# Altium footprint library ind.PcbLib: 38 footprints (part 1 of 3)
Each footprint in its own frame and in the unit in brackets; x right, y up, seen from the top. Pads: shape width x height; smd on the part's side, far side on the other; paste and mask are expansions set on the pad; w line width, h text height; cw(c..) or ccw(c..) is an arc to the next point about the centre after c.
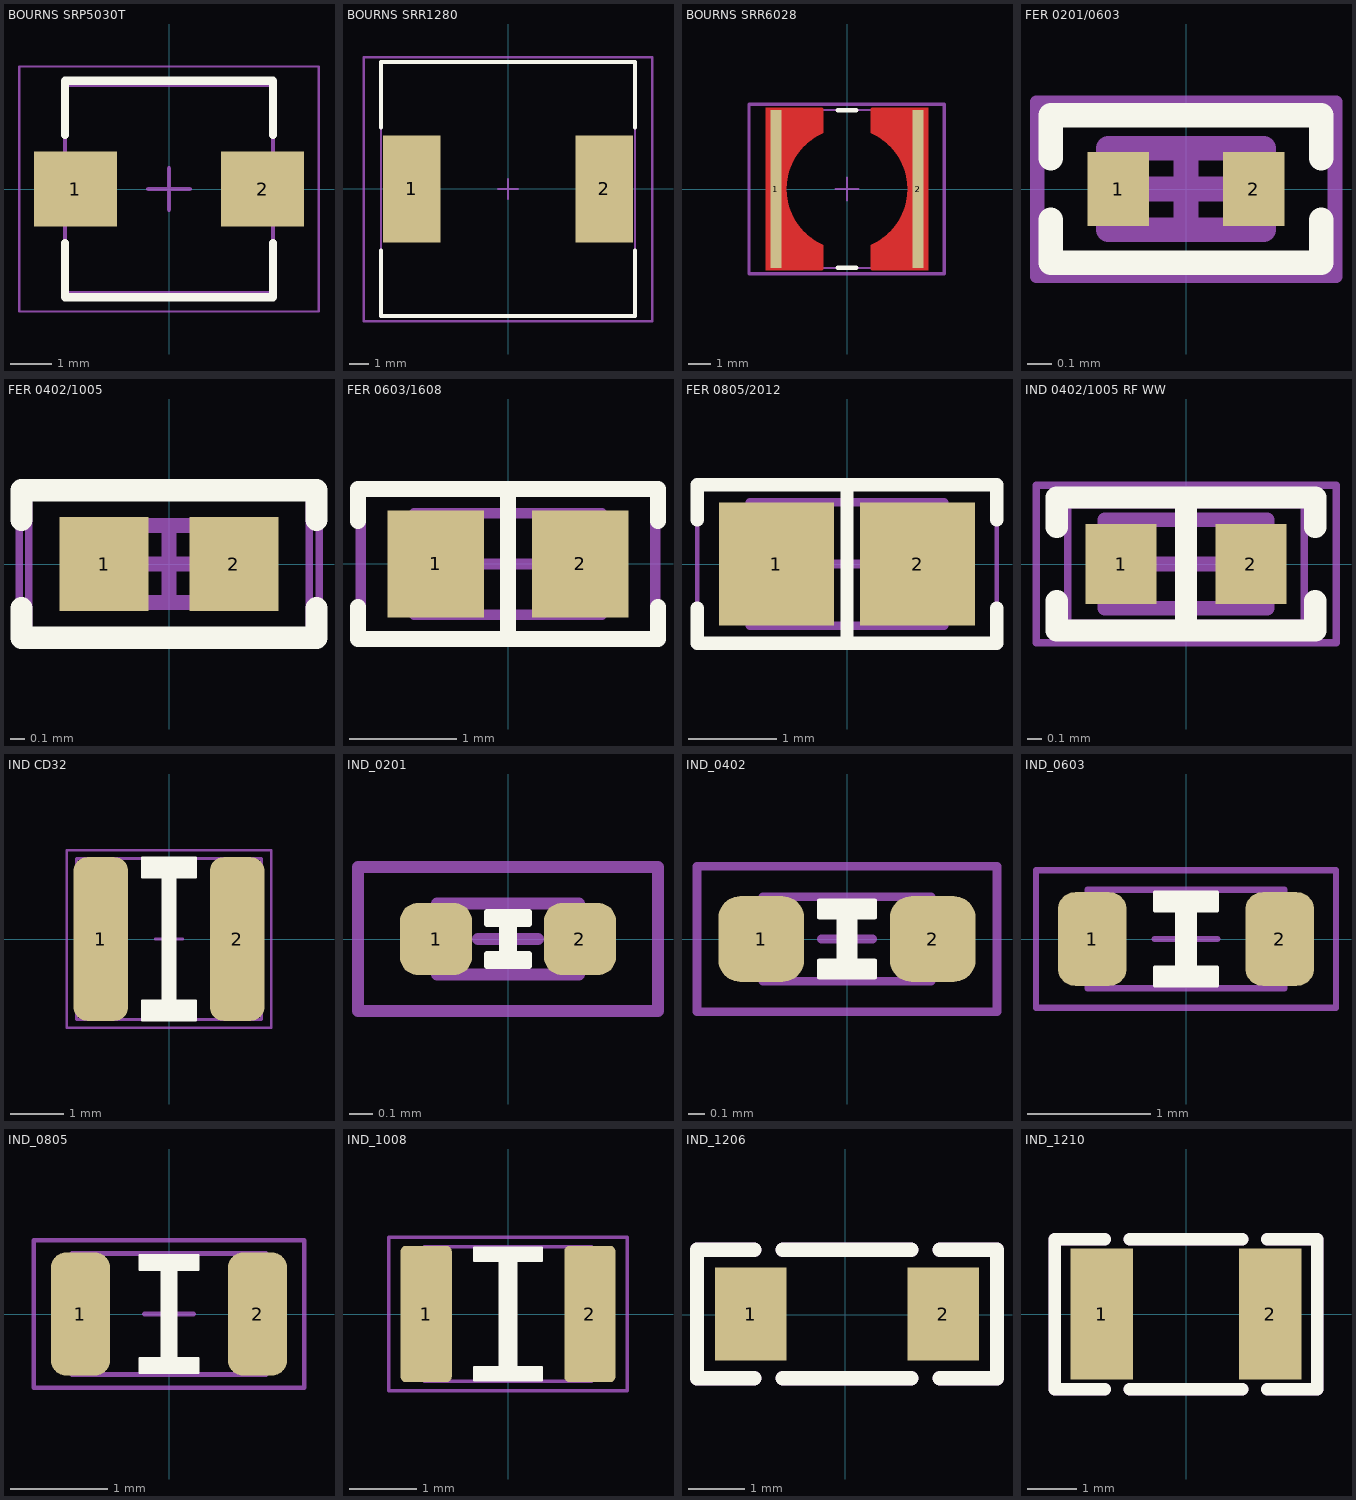
[diagram p0: the footprints below, top view; thin cyan lines are the x and y axes]

## BOURNS SRP5030T [mm] "Precision Wire Wound Inductor, 2-Leads, Body 5.70x5.20mm, IPC Medium Density"
height 3
pads (2):
  rect 2x1.8 smd: 1(-2.25,0) 2(2.25,0)
Top Overlay:
  lines w0.2: -2.5,-1.3 -2.5,-2.6 2.5,-2.6 2.5,-1.3 ; -2.5,1.3 -2.5,2.6 2.5,2.6 2.5,1.3
Mechanical 13:
  lines w0.1: -2.5,-2.5 2.5,-2.5 2.5,2.5 -2.5,2.5 -2.5,-2.5
M15:
  lines w0.051: -3.607,-2.946 3.607,-2.946 3.607,2.946 -3.607,2.946 -3.607,-2.946
  text ".Designator" at -1.016,-0.737 h2.54
Component Center:
  lines w0.05: -3.6,-2.95 -3.6,2.95 3.6,2.95 3.6,-2.95 -3.6,-2.95
  lines w0.1: -0.5,0 0.5,0 ; 0,-0.5 0,0.5
3D body "Bourns SRP5030T.STEP": height 3, standoff 0, extent -2.85,-2.6 2.85,2.6

## BOURNS SRR1280 [mm] "Precision Wire Wound Inductor, 2-Leads, Body 12.50x12.50mm, IPC Medium Density"
height 8
pads (2):
  rect 2.9x5.4 smd: 1(-4.85,0) 2(4.85,0)
Top Overlay:
  lines w0.2: -6.4,-3.1 -6.4,-6.4 6.4,-6.4 6.4,-3.1 ; -6.4,3.1 -6.4,6.4 6.4,6.4 6.4,3.1
Mechanical 13:
  lines w0.1: -6.4,-6.4 -6.4,6.4 6.4,6.4 6.4,-6.4 -6.4,-6.4
M15:
  lines w0.127: -7.264,-6.655 7.264,-6.655 7.264,6.629 -7.264,6.629 -7.264,-6.655
  text ".Designator" at -1.016,-0.762 h2.54
Component Center:
  lines w0.05: -7.225,-6.65 7.225,-6.65 7.225,6.65 -7.225,6.65 -7.225,-6.65
  lines w0.1: -0.5,0 0.5,0 ; 0,-0.5 0,0.5
3D body "SRR1280.STEP": height 7.9, standoff 0, extent -6.25,-6.25 6.25,6.25

## BOURNS SRR6028 [mm] "Precision Wire Wound Inductor, 2-Leads, Body 6.80x6.80mm, IPC Medium Density"
height 3
pads (2):
  rect 0.5x7 smd: 1(-3.15,0) 2(3.15,0)
Top Layer:
  region: -3.6,3.6 -1.1,3.6 -1.1,2.5 -1.4,2.4 -1.7,2.1 -1.9,2 -2.1,1.7 -2.3,1.4 -2.5,1 -2.6,0.7 -2.7,0.3 -2.7,0 -3.6,0
  region: -3.6,-3.6 -1.1,-3.6 -1.1,-2.5 -1.4,-2.4 -1.7,-2.1 -1.9,-2 -2.1,-1.7 -2.3,-1.4 -2.5,-1 -2.6,-0.7 -2.7,-0.3 -2.7,0 -3.6,0
  region: 3.6,-3.6 1.1,-3.6 1.1,-2.5 1.4,-2.4 1.7,-2.1 1.9,-2 2.1,-1.7 2.3,-1.4 2.5,-1 2.6,-0.7 2.7,-0.3 2.7,0 3.6,0
  region: 3.6,3.6 1.1,3.6 1.1,2.5 1.4,2.4 1.7,2.1 1.9,2 2.1,1.7 2.3,1.4 2.5,1 2.6,0.7 2.7,0.3 2.7,0 3.6,0
  lines w0.1: -1.1,-3.55 -1.1,-2.5 ; -1.1,-2.5 cw(c0,0) -2.731,0 cw(c0,0) -1.1,2.5 ; -1.1,2.5 -1.1,3.55 ; 1.1,-3.55 1.1,-2.5 ; 1.1,-2.5 ccw(c0,0) 2.731,0 ccw(c0,0) 1.1,2.5 ; 1.1,2.5 1.1,3.55
Top Overlay:
  lines w0.2: -0.4,-3.5 0.4,-3.5 ; -0.4,3.5 0.4,3.5
Mechanical 13:
  lines w0.1: -3.5,-3.5 -3.5,3.5 3.5,3.5 3.5,-3.5 -3.5,-3.5
M15:
  lines w0.152: -4.343,-3.759 4.318,-3.759 4.318,3.759 -4.343,3.759 -4.343,-3.759
  text ".Designator" at -1.016,-0.686 h2.54
Component Center:
  lines w0.05: -4.325,-3.75 4.325,-3.75 4.325,3.75 -4.325,3.75 -4.325,-3.75
  lines w0.1: -0.5,0 0.5,0 ; 0,-0.5 0,0.5
3D body "Bourns SRR6028.STEP": height 2.8, standoff 0, extent -3.4,-3.4 3.4,3.4

## FER 0201/0603 [mm] "Chip Inductor, 2-Leads, Body 0.60x0.30mm, IPC Medium Density"
height 0.33
pads (2):
  rect 0.25x0.3 smd: 1(-0.275,0) 2(0.275,0)
Top Overlay:
  lines w0.1: -0.55,-0.125 -0.55,-0.3 0.55,-0.3 0.55,-0.125 ; -0.55,0.125 -0.55,0.3 0.55,0.3 0.55,0.125
Mechanical 13:
  lines w0.1: -0.315,-0.165 0.315,-0.165 0.315,0.165 -0.315,0.165 -0.315,-0.165
M15:
  lines w0.051: -0.61,-0.356 -0.61,0.356 0.61,0.356 0.61,-0.356 -0.61,-0.356
  text ".Designator" at -0.305,-0.203 h0.76
Component Center:
  lines w0.05: -0.6,-0.35 -0.6,0.35 0.6,0.35 0.6,-0.35 -0.6,-0.35
  lines w0.1: -0.165,0 0.165,0 ; 0,-0.165 0,0.165
3D body "FER 0201.STEP": height 0.29, standoff -0.01, extent -0.3,-0.15 0.3,0.15

## FER 0402/1005 [mm] "Chip Ferrite, 2-Leads, Body 1.02x0.51mm, IPC Medium Density"
height 0.52
pads (2):
  rect 0.6x0.64 smd: 1(-0.44,0) 2(0.44,0)
Top Overlay:
  lines w0.15: -1,-0.3 -1,-0.5 1,-0.5 1,-0.3 ; -1,0.3 -1,0.5 1,0.5 1,0.3
Mechanical 13:
  lines w0.1: -0.515,-0.26 -0.515,0.26 0.515,0.26 0.515,-0.26 -0.515,-0.26
M15:
  lines w0.051: -1.016,-0.533 1.016,-0.533 1.016,0.533 -1.016,0.533 -1.016,-0.533
  text ".Designator" at -0.406,-0.279 h1.02
Component Center:
  lines w0.05: -0.95,-0.5 0.95,-0.5 0.95,0.5 -0.95,0.5 -0.95,-0.5
  lines w0.1: -0.26,0 0.26,0 ; 0,-0.26 0,0.26
3D body "FER 0402.STEP": height 0.52, standoff 0, extent -0.5,-0.262 0.5,0.262

## FER 0603/1608 [mm] "Chip Ferrite, 2-Leads, Body 1.60x0.80mm, IPC Medium Density"
height 0.89
pads (2):
  rect 0.9x1 smd: 1(-0.675,0) 2(0.675,0)
Top Overlay:
  lines w0.15: -1.4,-0.4 -1.4,-0.7 1.4,-0.7 1.4,-0.4 ; -1.4,0.4 -1.4,0.7 1.4,0.7 1.4,0.4 ; 0,-0.7 0,0.7
Mechanical 13:
  lines w0.1: -0.875,-0.475 0.875,-0.475 0.875,0.475 -0.875,0.475 -0.875,-0.475
M15:
  lines w0.051: -1.397,-0.711 -1.397,0.711 1.397,0.711 1.397,-0.711 -1.397,-0.711
  text ".Designator" at -0.61,-0.406 h1.52
Component Center:
  lines w0.05: -1.35,-0.75 -1.35,0.75 1.35,0.75 1.35,-0.75 -1.35,-0.75
  lines w0.1: -0.475,0 0.475,0 ; 0,-0.475 0,0.475
3D body "FER 0603.STEP": height 0.82, standoff 0, extent -0.8,-0.412 0.8,0.412

## FER 0805/2012 [mm] "Chip Ferrite, 2-Leads, Body 2.00x1.20mm, IPC Medium Density"
height 1.15
pads (2):
  rect 1.3x1.4 smd: 1(-0.8,0) 2(0.8,0)
Top Overlay:
  lines w0.15: -1.7,-0.5 -1.7,-0.9 1.7,-0.9 1.7,-0.5 ; -1.7,0.5 -1.7,0.9 1.7,0.9 1.7,0.5 ; 0,-0.9 0,0.9
Mechanical 13:
  lines w0.1: -1.1,-0.7 -1.1,0.7 1.1,0.7 1.1,-0.7 -1.1,-0.7
M15:
  lines w0.051: -1.702,-0.889 1.702,-0.889 1.702,0.914 -1.702,0.914 -1.702,-0.889
  text ".Designator" at -0.813,-0.559 h2.03
Component Center:
  lines w0.05: -1.7,-0.95 1.7,-0.95 1.7,0.95 -1.7,0.95 -1.7,-0.95
  lines w0.1: -0.5,0 0.5,0 ; 0,-0.5 0,0.5
3D body "FER 0805.STEP": height 1.26, standoff -0.02, extent -1,-0.637 1,0.637

## IND 0402/1005 RF WW [mm] "Chip Inductor, 2-Leads, Body 1.00x0.50mm, IPC High Density"
height 0.6
pads (2):
  rect 0.48x0.54 smd: 1(-0.44,0) 2(0.44,0)
Top Overlay:
  lines w0.15: -0.875,-0.25 -0.875,-0.45 0.875,-0.45 0.875,-0.25 ; -0.875,0.25 -0.875,0.45 0.875,0.45 0.875,0.25 ; 0,-0.45 0,0.45
Mechanical 13:
  lines w0.1: -0.55,-0.3 0.55,-0.3 0.55,0.3 -0.55,0.3 -0.55,-0.3
M15:
  lines w0.051: -1.016,-0.533 1.016,-0.533 1.016,0.533 -1.016,0.533 -1.016,-0.533
  text ".Designator" at -0.305,-0.203 h0.76
Component Center:
  lines w0.05: -0.8,-0.4 0.8,-0.4 0.8,0.4 -0.8,0.4 -0.8,-0.4
  lines w0.1: -0.3,0 0.3,0 ; 0,-0.3 0,0.3
3D body "IND-WireWound_TOP.STEP": height 0.51, standoff 0.26, extent -0.5,-0.287 0.5,0.287
3D body "IND-WireWound.STEP": height 0.5, standoff 0, extent -0.5,-0.276 0.5,0.277

## IND CD32 [mil]
pads (2):
  rrect50% 40x120 smd: 1(-50,0) 2(50,0)
Top Overlay:
  region: -20,60 20,60 20,45 5,45 5,-45 20,-45 20,-60 -20,-60 -20,-45 -5,-45 -5,45 -20,45
  lines w1: -20,-60 -20,-45 -5,-45 -5,45 -20,45 -20,60 20,60 20,45 5,45 5,-45 20,-45 20,-60 -20,-60
Mechanical 13:
  lines w2: -10,0 10,0 ; 0,-10 0,10 ; -67.88,-59.05 67.88,-59.05 67.88,59.06 -67.88,59.06 -67.88,-59.05
M15:
  lines w2: -75,-65 -75,65 75,65 75,-65 -75,-65
  text ".Designator" at -40,-27 h100
3D body "User Library-CD32-3_5x2_1.STEP": height 82.68, standoff 0, extent -67.88,-59.05 67.88,59.06

## IND_0201 [mil]
height 15.75
pads (2):
  rrect50% 12x12 smd: 1(-12,0) 2(12,0)
Top Overlay:
  region: -3.5,4.5 3.5,4.5 3.5,2.5 1,2.5 1,-2.5 3.5,-2.5 3.5,-4.5 -3.5,-4.5 -3.5,-2.5 -1,-2.5 -1,2.5 -3.5,2.5
  lines w1: -3.5,-4.5 3.5,-4.5 3.5,-2.5 1,-2.5 1,2.5 3.5,2.5 3.5,4.5 -3.5,4.5 -3.5,2.5 -1,2.5 -1,-2.5 -3.5,-2.5 -3.5,-4.5
Mechanical 13:
  lines w2: -5,0 5,0 ; 0,-5 0,5 ; -11.81,-5.91 -11.81,5.91 11.81,5.91 11.81,-5.91 -11.81,-5.91
M15:
  lines w2: -25,-12 -25,12 25,12 25,-12 -25,-12
  text ".Designator" at -12,-8 h30
3D body "INDC0603X03L.step": height 11.81, standoff 0, extent -11.81,-5.9 11.81,5.91

## IND_0402 [mil]
height 21.65
pads (2):
  rrect50% 20x20 smd: 1(-20,0) 2(20,0)
Top Overlay:
  region: -6.5,9 6.5,9 6.5,5 2,5 2,-5 6.5,-5 6.5,-9 -6.5,-9 -6.5,-5 -2,-5 -2,5 -6.5,5
  lines w1: -6.5,-9 6.5,-9 6.5,-5 2,-5 2,5 6.5,5 6.5,9 -6.5,9 -6.5,5 -2,5 -2,-5 -6.5,-5 -6.5,-9
Mechanical 13:
  lines w2: -6,0 6,0 ; 0,-6 0,6 ; -19.69,-9.84 19.68,-9.84 19.68,9.84 -19.69,9.84 -19.69,-9.84
M15:
  lines w2: -35,-17 -35,17 35,17 35,-17 -35,-17
  text ".Designator" at -16,-11 h40
3D body "INDC1005X05L.step": height 19.68, standoff 0, extent -19.68,-9.84 19.69,9.85

## IND_0603 [mil]
height 31.5
pads (2):
  rrect50% 22x30 smd: 1(-30,0) 2(30,0)
Top Overlay:
  region: -10,15 10,15 10,9 3,9 3,-9 10,-9 10,-15 -10,-15 -10,-9 -3,-9 -3,9 -10,9
  lines w1: -10,-15 10,-15 10,-9 3,-9 3,9 10,9 10,15 -10,15 -10,9 -3,9 -3,-9 -10,-9 -10,-15
Mechanical 13:
  lines w2: -10,0 10,0 ; 0,-10 0,10 ; -31.5,-15.75 31.5,-15.75 31.5,15.75 -31.5,15.75 -31.5,-15.75
M15:
  lines w2: -48,-22 -48,22 48,22 48,-22 -48,-22
  text ".Designator" at -24,-16 h60
3D body "INDC1608X08L.step": height 31.5, standoff 0, extent -31.49,-15.75 31.5,15.75

## IND_0805 [mil]
height 35.43
pads (2):
  rrect50% 24x50 smd: 1(-36,0) 2(36,0)
Top Overlay:
  region: -12,18 -12,24 12,24 12,18 3,18 3,-18 12,-18 12,-24 -12,-24 -12,-18 -3,-18 -3,18
  lines w1: -12,-24 12,-24 12,-18 3,-18 3,18 12,18 12,24 -12,24 -12,18 -3,18 -3,-18 -12,-18 -12,-24
Mechanical 13:
  lines w2: -10,0 10,0 ; 0,-10 0,10 ; -39.37,-24.61 -39.37,24.61 39.37,24.61 39.37,-24.61 -39.37,-24.61
M15:
  lines w2: -55,-30 55,-30 55,30 -55,30 -55,-30
  text ".Designator" at -32,-22 h80
3D body "INDC2012X10L.step": height 39.37, standoff 0, extent -39.37,-24.6 39.37,24.61

## IND_1008 [mil]
height 35.43
pads (2):
  rrect20% 30x80 smd: 1(-48,0) 2(48,0)
Top Overlay:
  region: -19.99,39.01 20.01,39.01 20.01,31.01 5.01,31.01 5.01,-31 20,-31 20,-39 -20,-39 -20,-31 -4.99,-31 -4.99,31.01 -19.99,31.01
  lines w1: -20,-39 -20,-31 -5,-31 -4.99,31.01 -19.99,31.01 -19.99,39.01 20.01,39.01 20.01,31.01 5.01,31.01 5.01,-31 20,-31 20,-39 -20,-39
Mechanical 13:
  lines w2: -49.21,39.37 49.21,39.37 ; -49.21,39.37 -49.21,39.37 ; -49.21,39.37 -49.21,-39.37 49.22,-39.37 49.22,39.37 ; 49.21,39.37 49.22,39.37
M15:
  lines w2: -70,-45 70,-45 70,45 -70,45 -70,-45
  text ".Designator" at -32,-24 h80
3D body "INDC2012X10L.step": height 39.37, standoff 0, extent -39.37,-24.6 39.37,24.61

## IND_1206 [mil]
height 35.43
pads (2):
  rect 50x65 smd: 1(-66.44,0.5) 2(68.56,0.5)
Top Overlay:
  lines w10: -63.95,-44.5 -103.94,-44.5 -103.94,45.5 -63.95,45.5 ; -43.95,-44.5 46.05,-44.5 ; -43.95,45.5 46.05,45.5 ; 66.06,-44.5 106.06,-44.5 106.06,45.5 66.06,45.5
M15:
  text ".Designator" at -32,-22 h80
Mechanical 29:
  lines w10: -63.95,-44.5 -103.94,-44.5 -103.94,45.5 -63.95,45.5 ; -43.95,-44.5 46.05,-44.5 ; -43.95,45.5 46.05,45.5 ; 66.06,-44.5 106.06,-44.5 106.06,45.5 66.06,45.5
  text ".Designator" at -69.81,-5.87 h20
3D body "INDC3216X130N EIA 1206.step": height 51.18, standoff 0, extent -62.99,-31.49 63,31.5
3D body "1206L.STEP": height 35.43, standoff 0, extent -61.94,-29.5 64.05,33.5

## IND_1210 [mil]
height 35.43
pads (2):
  rect 50x105 smd: 1(-67.5,0) 2(67.5,0)
Top Overlay:
  lines w10: -65,-60 -105,-60 -105,60 -65,60 ; -45,-60 45,-60 ; -45,60 45,60 ; 65,-60 105,-60 105,60 65,60
Mechanical 7:
  lines w10: -65,-60 -105,-60 -105,60 -65,60 ; -45,-60 45,-60 ; -45,60 45,60 ; 65,-60 105,-60 105,60 65,60
M15:
  text ".Designator" at -49.5,-24 h80
Mechanical 29:
  lines w10: -65,-60 -105,-60 -105,60 -65,60 ; -45,-60 45,-60 ; -45,60 45,60 ; 65,-60 105,-60 105,60 65,60
  text ".Designator" at -83.74,-14.96 h50
3D body "INDC3225X135N EIA 1210.step": height 53.15, standoff 0, extent -80.49,-50.2 45.5,48.22
3D body "1210L.STEP": height 51.18, standoff 0, extent -62.49,-51 63.49,47.43